# Altium footprint library MEC.PcbLib: 1 footprints
Each footprint in its own frame and in the unit in brackets; x right, y up, seen from the top. Pads: shape width x height; smd on the part's side, far side on the other; paste and mask are expansions set on the pad; w line width, h text height; cw(c..) or ccw(c..) is an arc to the next point about the centre after c.
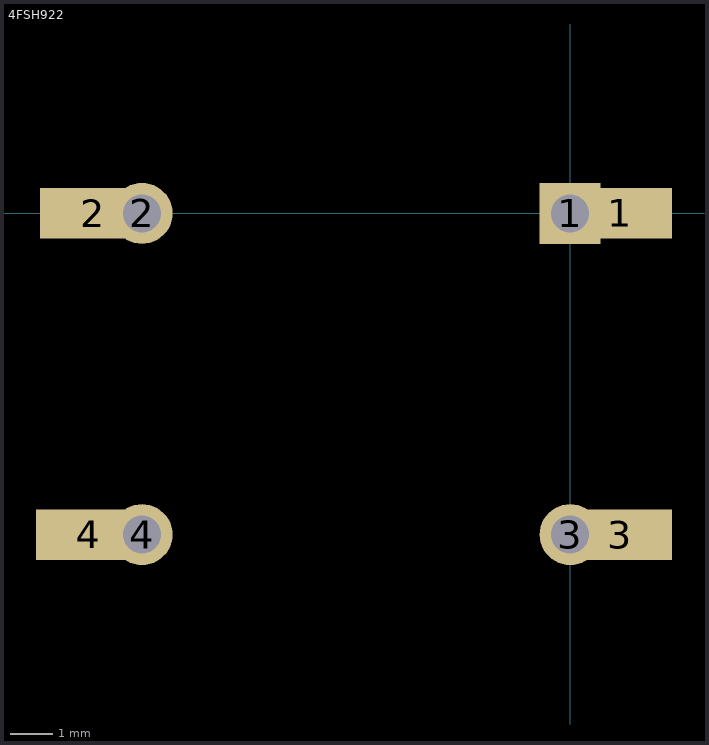
[diagram p0: the footprint, top view; thin cyan lines are the x and y axes]

## 4FSH922 [mm]
pads (8):
  rect 1.45x1.45 hole 0.9: 1(0,0)
  rect 2.5x1.2 smd: 1(1.17,0) 2(-11.33,0) 3(1.17,-7.62) 4(-11.43,-7.62)
  round 1.45 hole 0.9: 2(-10.16,0) 3(0,-7.62) 4(-10.16,-7.62)
3D body: height 3, standoff -15.9, extent -10.541,-9.299 0.416,1.679